# Altium schematic symbol library BQ76972.Schlib: 1 symbol
Pins are listed as number, name and electrical type; pins without a type are passive.

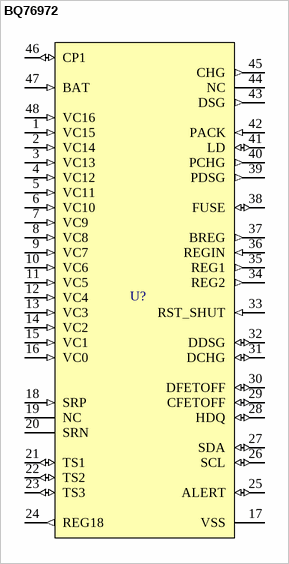
[diagram p0: symbol BQ76972]

## BQ76972
designator U?
Battery Management 3s-to-16s high-accuracy battery monitor and protector for Li-ion, Li-poly and LiFePO4 48-TQFP -40 to 85
pins: 1 VC15 (in), 2 VC14 (in), 3 VC13 (in), 4 VC12 (in), 5 VC11 (in), 6 VC10 (in), 7 VC9 (in), 8 VC8 (in), 9 VC7 (in), 10 VC6 (in), 11 VC5 (in), 12 VC4 (in), 13 VC3 (in), 14 VC2 (in), 15 VC1 (in), 16 VC0 (in), 17 VSS (power), 18 SRP (in), 19 NC, 20 SRN, 21 TS1 (io), 22 TS2 (io), 23 TS3 (io), 24 REG18 (out), 25 ALERT (io), 26 SCL (io), 27 SDA (io), 28 HDQ (io), 29 CFETOFF (io), 30 DFETOFF (io), 31 DCHG (io), 32 DDSG (io), 33 RST_SHUT (in), 34 REG2 (out), 35 REG1 (out), 36 REGIN (in), 37 BREG (out), 38 FUSE (io), 39 PDSG (out), 40 PCHG (out), 41 LD (io), 42 PACK (in), 43 DSG (out), 44 NC, 45 CHG (out), 46 CP1 (io), 47 BAT (in), 48 VC16 (in)